# Altium footprint library BU6174x.PcbLib: 1 footprints
Each footprint in its own frame and in the unit in brackets; x right, y up, seen from the top. Pads: shape width x height; smd on the part's side, far side on the other; paste and mask are expansions set on the pad; w line width, h text height; cw(c..) or ccw(c..) is an arc to the next point about the centre after c.
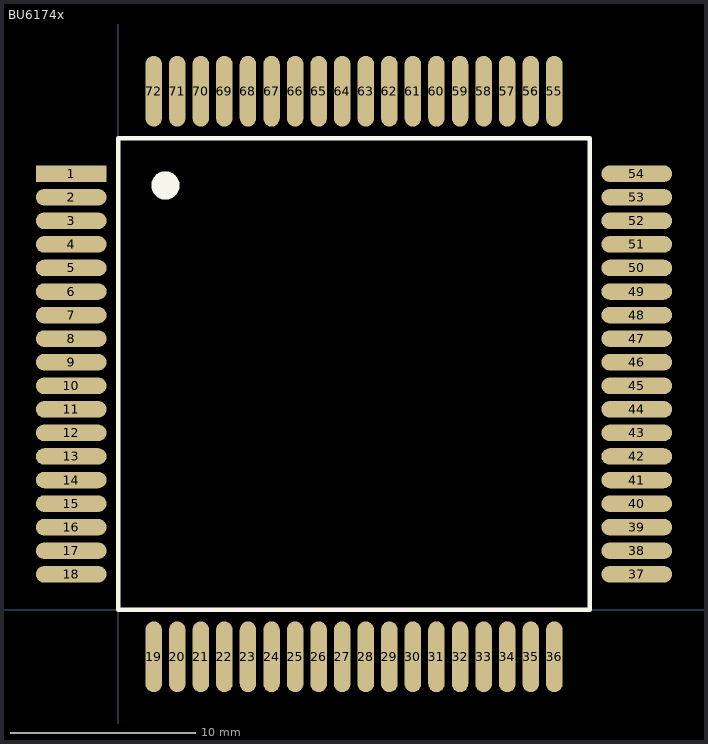
[diagram p0: the footprint, top view; thin cyan lines are the x and y axes]

## BU6174x [mil]
pads (72):
  rect 150x35 smd: 1(-100,925)
  oval 150x35 smd: 2(-100,875) 3(-100,825) 4(-100,775) 5(-100,725) 6(-100,675) 7(-100,625) 8(-100,575) 9(-100,525) 10(-100,475) 11(-100,425) 12(-100,375) 13(-100,325) 14(-100,275) 15(-100,225) 16(-100,175) 17(-100,125) 18(-100,75) 37(1100,75) 38(1100,125) 39(1100,175) 40(1100,225) 41(1100,275) 42(1100,325) 43(1100,375) 44(1100,425) 45(1100,475) 46(1100,525) 47(1100,575) 48(1100,625) 49(1100,675) 50(1100,725) 51(1100,775) 52(1100,825) 53(1100,875) 54(1100,925)
  oval 35x150 smd: 19(75,-100) 20(125,-100) 21(175,-100) 22(225,-100) 23(275,-100) 24(325,-100) 25(375,-100) 26(425,-100) 27(475,-100) 28(525,-100) 29(575,-100) 30(625,-100) 31(675,-100) 32(725,-100) 33(775,-100) 34(825,-100) 35(875,-100) 36(925,-100) 55(925,1100) 56(875,1100) 57(825,1100) 58(775,1100) 59(725,1100) 60(675,1100) 61(625,1100) 62(575,1100) 63(525,1100) 64(475,1100) 65(425,1100) 66(375,1100) 67(325,1100) 68(275,1100) 69(225,1100) 70(175,1100) 71(125,1100) 72(75,1100)
Top Overlay:
  circle w30: c100,900 r15
  lines w10: 0,0 0,1000 1000,1000 1000,0 0,0